# EAGLE library part LAZURITE920J (library lazurite)
Lazurite 920J
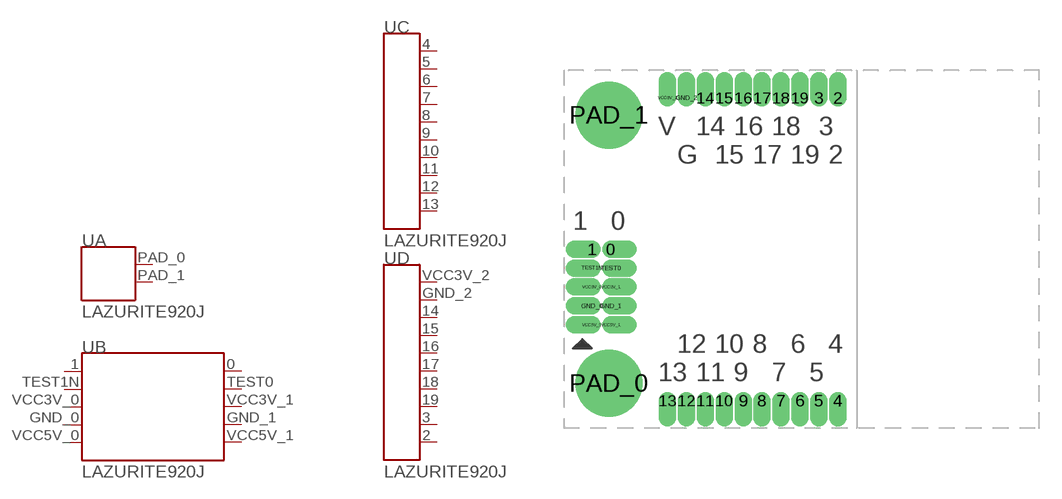
[diagram p0: symbol with the pads of LAZURITE920J; footprint LAZURITE920J]

Designator prefix U; gates B=LAZURITE920J_1 A=LAZURITE920J_0 D=LAZURITE920J_2 C=LAZURITE920J_3

## LAZURITE920JLAZURITE920J  [LAZURITE920J]
0  B:0  pas
1  B:1  pas
2  D:2  pas
3  D:3  pas
4  C:4  pas
5  C:5  pas
6  C:6  pas
7  C:7  pas
8  C:8  pas
9  C:9  pas
10  C:10  pas
11  C:11  pas
12  C:12  pas
13  C:13  pas
14  D:14  pas
15  D:15  pas
16  D:16  pas
17  D:17  pas
18  D:18  pas
19  D:19  pas
GND_0  B:GND_0  pas
GND_1  B:GND_1  pas
GND_2  D:GND_2  pas
PAD_0  A:PAD_0  pas
PAD_1  A:PAD_1  pas
TEST0  B:TEST0  pas
TEST1N  B:TEST1N  pas
VCC3V_0  B:VCC3V_0  pas
VCC3V_1  B:VCC3V_1  pas
VCC3V_2  D:VCC3V_2  pas
VCC5V_0  B:VCC5V_0  pas
VCC5V_1  B:VCC5V_1  pas

## Footprint LAZURITE920J (pad centres in mm)
drill 0.65 pad 0.8 offset: 0 1.27,5.08; 1 0,5.08; 2 16.51,15.24; 3 15.24,15.24; 4 16.51,-5.08; 5 15.24,-5.08; 6 13.97,-5.08; 7 12.7,-5.08; 8 11.43,-5.08; 9 10.16,-5.08; 10 8.89,-5.08; 11 7.62,-5.08; 12 6.35,-5.08; 13 5.08,-5.08; 14 7.62,15.24; 15 8.89,15.24; 16 10.16,15.24; 17 11.43,15.24; 18 12.7,15.24; 19 13.97,15.24; GND_0 0,1.27; GND_1 1.27,1.27; GND_2 6.35,15.24; TEST0 1.27,3.81; TEST1N 0,3.81; VCC3V_0 0,2.54; VCC3V_1 1.27,2.54; VCC3V_2 5.08,15.24; VCC5V_0 0,0; VCC5V_1 1.27,0
drill 2.1 pad 4.5: PAD_0 1.135,-3.92
drill 2 pad 4.5: PAD_1 1.135,14.08